# EAGLE library part STD020M06X2 (library con-pinheader-standard)
male standard header 2mm
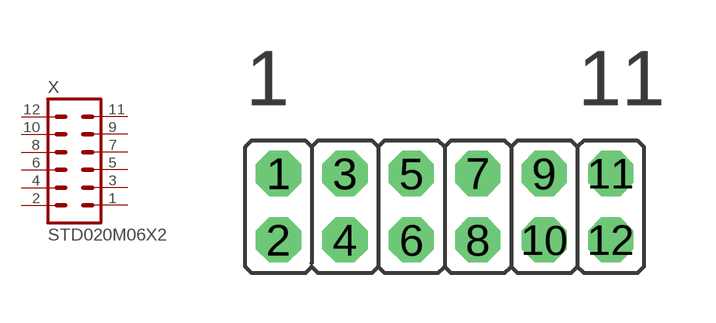
[diagram p54: symbol with the pads of STD020M06X2-2.00; footprint STD020M06X2-2.00]

Designator prefix X

## STD020M06X2-2.00MM  [STD020M06X2-2.00]
1  1  pas
2  2  pas
3  3  pas
4  4  pas
5  5  pas
6  6  pas
7  7  pas
8  8  pas
9  9  pas
10  10  pas
11  11  pas
12  12  pas

## Footprint STD020M06X2-2.00 (pad centres in mm)
male standard header 2mm
drill 0.85 octagon: 1 -5,1; 2 -5,-1; 3 -3,1; 4 -3,-1; 5 -1,1; 6 -1,-1; 7 1,1; 8 1,-1; 9 3,1; 10 3,-1; 11 5,1; 12 5,-1